# Altium schematic symbol library Relays_Switches.SchLib: 7 symbols
Pins are listed as number, name and electrical type; pins without a type are passive.

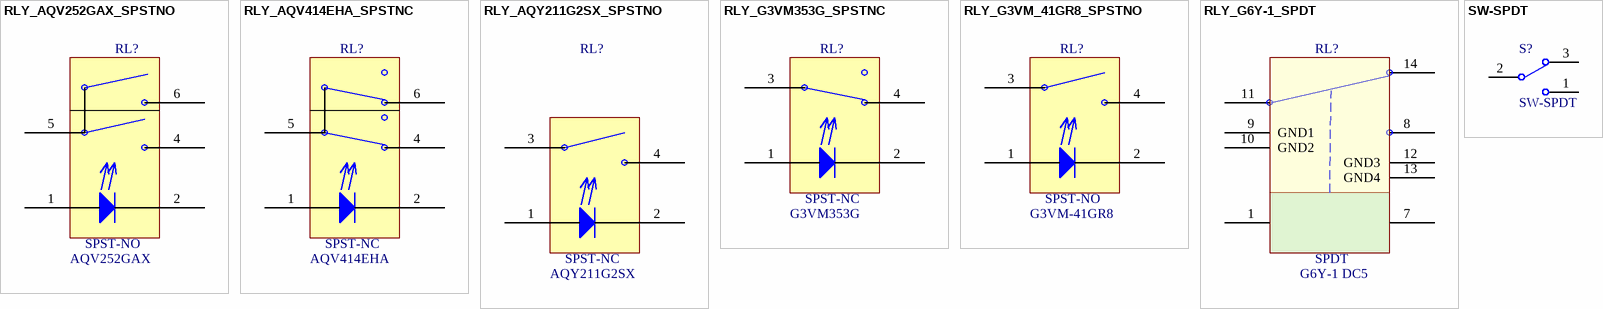
[diagram p0: symbols RLY_AQV252GAX_SPSTNO to SW-SPDT]

## RLY_AQV252GAX_SPSTNO
designator RL?, comment SPST-NO  Manufacturer Part Number: AQV252GAX
SPST-NO Relay, Panasonic; Manufacturer: Panasonic Electric Works; Description: RELAY OPTO SPST-NO 2500MA 60V; Circuit: SPST-NO (1 Form A); Output Type: AC, DC; On-State Resistance: 120 mOhm; Load Current: 2.5A; Voltage - Input: 1.14VDC; Voltage - Load: 0 ~ 60 V; Supplier 1: Digi-Key; RoHS: RoHS Compliant; Category: Relays; Stock 1: 2344; Pricing 1: 1=5.44, 25=4.9952, 50=4.44, 100=3.774, 500=3.33 (USD); Packaging: Cut Tape (CT); Mounting Type: Surface Mount; Termination Style: Gull Wing; Package / Case: 6-SMD (0.300", 7.62mm); Supplier Device Package: 6-SMD; Relay Type: Relay; ComponentLink1URL: http://pewa.panasonic.com/assets/pcsd/catalog/aqv-dip-high-capacity-catalog.pdf; ComponentLink1Description: http://pewa.panasonic.com/assets/pcsd/catalog/aqv-dip-high-capacity-catalog.pdf; Supplier Part Number 1: 255-3375-1-ND
footprint AQV_PANASONIC
pins: 1 +, 2 -, 4, 5, 6

## RLY_AQV414EHA_SPSTNC
designator RL?, comment SPST-NC  Manufacturer Part Number: AQV414EHA
RELAY OPTO SPST-NC 120MA 400V; Manufacturer: Panasonic Electric Works; Circuit: SPST-NC (1 Form B); Output Type: AC, DC; On-State Resistance: 50 Ohm; Voltage - Input: 1.14VDC; Voltage - Load: 0 ~ 400 V; Supplier 1: Digi-Key; RoHS: RoHS Compliant; Category: Relays; Stock 1: 768; Pricing 1: 1=5.44, 25=4.9952, 50=4.44, 100=3.774, 500=3.33, 1000=3.219, 5000=3.108, 10000=2.9526, 25000=2.886 (USD); Packaging: Tube; Load Current: 120mA; Mounting Type: Surface Mount; Termination Style: Gull Wing; Package / Case: 6-SMD (0.300", 7.62mm); Supplier Device Package: 6-SMD; Relay Type: Relay; ComponentLink1URL: http://pewa.panasonic.com/assets/pcsd/catalog/aqv-dip-form-b-reinforced-isolation-catalog.pdf; ComponentLink1Description: http://pewa.panasonic.com/assets/pcsd/catalog/aqv-dip-form-b-reinforced-isolation-catalog.pdf; Supplier Part Number 1: 255-1424-5-ND
footprint AQV_PANASONIC
pins: 1 +, 2 -, 4, 5, 6

## RLY_AQY211G2SX_SPSTNO
designator RL?, comment SPST-NC  Manufacturer Part Number: AQY211G2SX
RELAY OPTO SPST-NO 1.6A 4SOP; Manufacturer: Panasonic Electric Works; Circuit: SPST-NO (1 Form A); Output Type: AC, DC; On-State Resistance: 100 mOhm; Voltage - Load: 0 ~ 40 V; Supplier 1: Digi-Key; RoHS: RoHS Compliant; Category: Relays; Stock 1: 159; Pricing 1: 1=9.02, 25=8.28, 50=7.36, 100=6.256, 500=5.52 (USD); Packaging: Cut Tape (CT); Load Current: 1.6A; Voltage - Input: -; Mounting Type: Surface Mount; Termination Style: Gull Wing; Package / Case: 4-SOP (0.173", 4.40mm); Supplier Device Package: 4-SOP; Relay Type: Relay; ComponentLink1URL: http://www3.panasonic.biz/ac/e_download/control/relay/photomos/catalog/semi_eng_gu1a_aqy21_gs.pdf; ComponentLink1Description: http://www3.panasonic.biz/ac/e_download/control/relay/photomos/catalog/semi_eng_gu1a_aqy21_gs.pdf; Supplier Part Number 1: 255-3566-1-ND
footprint 4-SOP (0.173", 4.40mm) (Relay, 4-Leads, Body 4.1x4.7mm (max), Pitch 2.54mm, IPC Medium Density)
pins: 1 +, 2 -, 3, 4

## RLY_G3VM353G_SPSTNC
designator RL?, comment SPST-NC  Manufacturer Part Number: G3VM353G
RELAY SSR SPST 350V 120MA 4-SOP; Manufacturer: Omron Electronics Inc-EMC Div; Circuit: SPST-NC (1 Form B); Output Type: AC, DC; On-State Resistance: 25 Ohm; Voltage - Input: 1.15VDC; Voltage - Load: 0 ~ 350 V; Supplier 1: Digi-Key; RoHS: RoHS Compliant; Category: Relays; Stock 1: 153; Pricing 1: 1=6.16, 10=5.778, 25=5.136, 50=4.8794, 100=4.6226, 250=4.10896, 500=3.85214, 1000=3.59534, 2500=3.53114 (USD); Packaging: Tube; Load Current: 120mA; Mounting Type: Surface Mount; Termination Style: Gull Wing; Package / Case: 4-SOP (0.173", 4.40mm); Supplier Device Package: 4-SOP; Relay Type: Relay; ComponentLink1URL: http://www.components.omron.com/components/web/PDFLIB.nsf/0/054513210F133F1685257201007DD685/$file/G3VM_353G_0613.pdf; ComponentLink1Description: http://www.components.omron.com/components/web/PDFLIB.nsf/0/054513210F133F1685257201007DD685/$file/G3VM_353G_0613.pdf; Supplier Part Number 1: Z2449-ND
footprint 4-SOP (0.173", 4.40mm) (Relay, 4-Leads, Body 4.1x4.7mm (max), Pitch 2.54mm, IPC Medium Density)
pins: 1 +, 2 -, 3, 4

## RLY_G3VM_41GR8_SPSTNO
designator RL?, comment SPST-NO  Manufacturer Part Number: G3VM-41GR8
RELAY SPST-NO Relay, OMRON, 1210; Manufacturer: Omron Electronics Inc-EMC Div; Description: RELAY SSR SPST 40V 1A 4-SOP; Circuit: SPST-NO (1 Form A); Output Type: AC, DC; On-State Resistance: 130 mOhm; Load Current: 1A; Voltage - Input: 1.33VDC; Voltage - Load: 0 ~ 40 V; Supplier 1: Digi-Key; RoHS: RoHS Compliant; Category: Relays; Stock 1: 4170; Pricing 1: 1=6.69, 10=6.275, 25=5.5776, 50=5.2986, 100=5.0197, 250=4.46196, 500=4.18308, 1000=3.90422, 2500=3.8345 (USD); Packaging: Tube; Mounting Type: Surface Mount; Termination Style: Gull Wing; Package / Case: 4-SOP (0.173", 4.40mm); Supplier Device Package: 4-SOP; Relay Type: Relay; ComponentLink1URL: http://www.components.omron.com/components/web/PDFLIB.nsf/0/DB3B4F2016C1586C8625762C005CAEEF/$file/G3VM_41GR8_1210.pdf; ComponentLink1Description: http://www.components.omron.com/components/web/PDFLIB.nsf/0/DB3B4F2016C1586C8625762C005CAEEF/$file/G3VM_41GR8_1210.pdf; Supplier Part Number 1: Z2833-ND
footprint 4-SOP (0.173", 4.40mm) (Relay, 4-Leads, Body 4.1x4.7mm (max), Pitch 2.54mm, IPC Medium Density)
pins: 1 +, 2 -, 3, 4

## RLY_G6Y-1_SPDT
designator RL?, comment SPDT  Manufacturer Part Number: G6Y-1 DC5
SPDT Relay, OMRON; Manufacturer: Omron Electronics Inc-EMC Div; Description: RELAY RF SPDT 10MA 5V; Relay Type: RF; Coil Type: Non Latching; Coil Current: 40mA; Coil Voltage: 5VDC; Contact Form: SPDT (1 Form C); Contact Rating (Current): 10mA; Switching Voltage: 30VAC, 30VDC - Max; Turn On Voltage (Max): 3.75 VDC; Turn Off Voltage (Min): 0.5 VDC; Operate Time: 10ms; Release Time: 5ms; Coil Power: 200 mW; Coil Resistance: 125 Ohms; Supplier 1: Digi-Key; RoHS: RoHS Compliant; Category: Relays; Stock 1: 0; Pricing 1: 1=0 (USD); Packaging: Bulk; Features: Sealed - Fully; Mounting Type: Through Hole; Termination Style: PC Pin; Contact Material: Copper (Cu), Gold (Au); Operating Temperature: -40°C ~ 70°C; ComponentLink1URL: http://components.omron.com/components/web/pdflib.nsf/0/A3A2DCE400EC19E985257201007DD58C/$file/G6Y_1210.pdf; ComponentLink1Description: http://components.omron.com/components/web/pdflib.nsf/0/A3A2DCE400EC19E985257201007DD58C/$file/G6Y_1210.pdf; Supplier Part Number 1: Z119-ND
footprint G6Y-1210
pins: 1, 7, 8, 9 GND1, 10 GND2, 11, 12 GND3, 13 GND4, 14

## SW-SPDT
designator S?
SWITCH SLIDE MINI SPDT PC 120V; Manufacturer: C&K Components; Manufacturer Part Number: 1101M2S3CQE2; Switch Function: On-On; Contact Rating @ Voltage: 6A @ 120VAC; Actuator Type: Standard; Supplier 1: Digi-Key; RoHS: RoHS Compliant; Category: Switches; Stock 1: 2956; Pricing 1: 1=3.85, 10=3.689, 50=3.1278, 100=3.0476, 250=3.00752, 500=2.4862, 1000=2.3258, 5000=2.1654 (USD); Circuit: SPDT; Mounting Type: Through Hole; Orientation: Vertical; Termination Style: PC Pin; ComponentLink1URL: http://www.ck-components.com/index.php?module=media&action=Display&cmpref=14394&lang=en&width=&height=&format=&alt=; ComponentLink1Description: http://www.ck-components.com/index.php?module=media&action=Display&cmpref=14394&lang=en&width=&height=&format=&alt=; Supplier Part Number 1: CKN5001-ND
footprint SPDT_SWITCH
pins: 1, 2, 3